# Altium schematic symbol library Conan.SchLib: 2 symbols
Pins are listed as number, name and electrical type; pins without a type are passive.

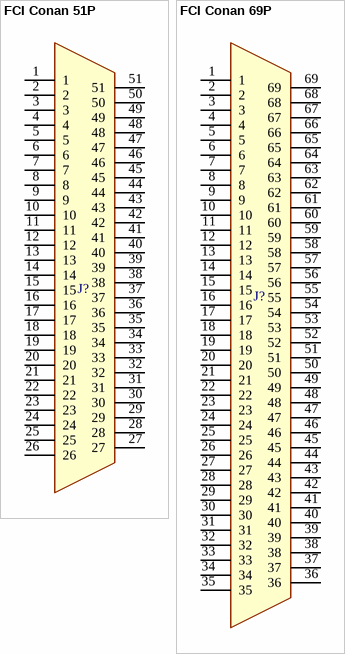
[diagram p0: symbols FCI Conan 51P to FCI Conan 69P]

## FCI Conan 51P
designator J?  (value not drawn)
FCI Conan 1mm 51P; Part No.: 919XX-XXX51LF; Vendor: Mouser; Manufacturer: FCI; Price Est.: $4.09
footprint Conan 51P Receptacle PEG (FCI Conan 51P Receptacle with pegs (heights vary))
pins: 1, 2, 3, 4, 5, 6, 7, 8, 9, 10, 11, 12, 13, 14, 15, 16, 17, 18, 19, 20, 21, 22, 23, 24, 25, 26, 27, 28, 29, 30, 31, 32, 33, 34, 35, 36, 37, 38, 39, 40, 41, 42, 43, 44, 45, 46, 47, 48, 49, 50, 51

## FCI Conan 69P
designator J?  (value not drawn)
FCI Conan 1mm 69P; Part No.: 919XX-XXX69LF; Vendor: Mouser; Manufacturer: FCI; Price Est.: $4.65
footprint Conan 69P Receptacle PEG (FCI Conan 69P Receptacle with pegs (universal))
pins: 1, 2, 3, 4, 5, 6, 7, 8, 9, 10, 11, 12, 13, 14, 15, 16, 17, 18, 19, 20, 21, 22, 23, 24, 25, 26, 27, 28, 29, 30, 31, 32, 33, 34, 35, 36, 37, 38, 39, 40, 41, 42, 43, 44, 45, 46, 47, 48, 49, 50, 51, 52, 53, 54, 55, 56, 57, 58, 59, 60, 61, 62, 63, 64, 65, 66, 67, 68, 69